# Altium schematic symbol library Connectors.SchLib: 19 symbols
Pins are listed as number, name and electrical type; pins without a type are passive.

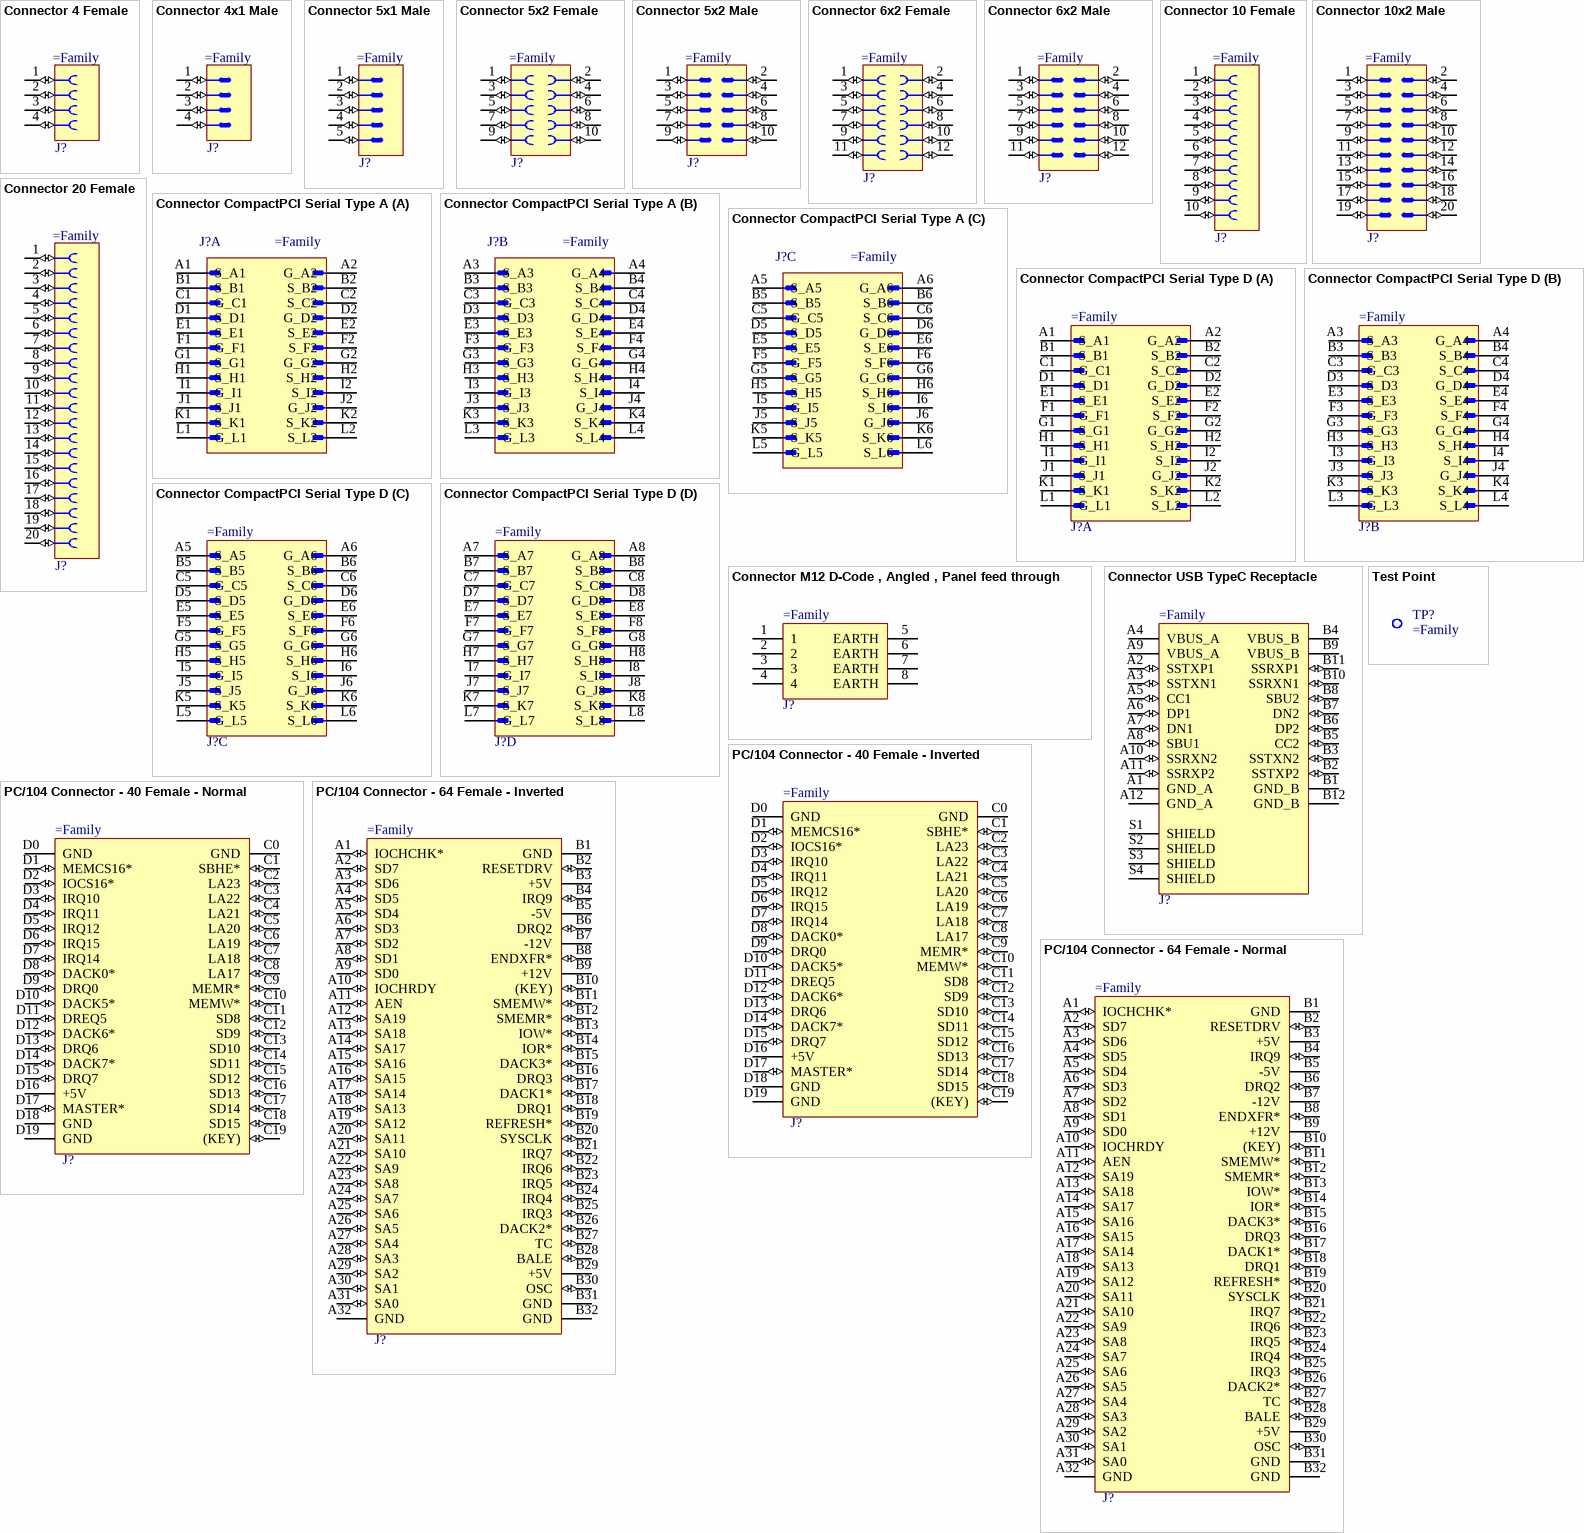
[diagram p0: symbols Connector 4 Female to Test Point]

## Connector 4 Female
designator J?
Connector 4 Female
pins: 1 (io), 2 (io), 3 (io), 4 (io)
1 alternate drawing of the same symbol

## Connector 4x1 Male
designator J?
Connector 4x1 Male
pins: 1 (io), 2 (io), 3 (io), 4 (io)
1 alternate drawing of the same symbol

## Connector 5x1 Male
designator J?
Connector 5x1 Male
pins: 1 (io), 2 (io), 3 (io), 4 (io), 5 (io)
1 alternate drawing of the same symbol

## Connector 5x2 Female
designator J?
Connector 5x2 Female
pins: 1 (io), 2 (io), 3 (io), 4 (io), 5 (io), 6 (io), 7 (io), 8 (io), 9 (io), 10 (io)
1 alternate drawing of the same symbol

## Connector 5x2 Male
designator J?
Connector 5x2 Male
pins: 1 (io), 2 (io), 3 (io), 4 (io), 5 (io), 6 (io), 7 (io), 8 (io), 9 (io), 10 (io)
1 alternate drawing of the same symbol

## Connector 6x2 Female
designator J?
Connector 6x2 Female
pins: 1 (io), 2 (io), 3 (io), 4 (io), 5 (io), 6 (io), 7 (io), 8 (io), 9 (io), 10 (io), 11 (io), 12 (io)
1 alternate drawing of the same symbol

## Connector 6x2 Male
designator J?
Connector 6x2 Male
pins: 1 (io), 2 (io), 3 (io), 4 (io), 5 (io), 6 (io), 7 (io), 8 (io), 9 (io), 10 (io), 11 (io), 12 (io)
1 alternate drawing of the same symbol

## Connector 10 Female
designator J?
Connector 10 Female
pins: 1 (io), 2 (io), 3 (io), 4 (io), 5 (io), 6 (io), 7 (io), 8 (io), 9 (io), 10 (io)
1 alternate drawing of the same symbol

## Connector 10x2 Male
designator J?
Connector 10x2 Male
pins: 1 (io), 2 (io), 3 (io), 4 (io), 5 (io), 6 (io), 7 (io), 8 (io), 9 (io), 10 (io), 11 (io), 12 (io), 13 (io), 14 (io), 15 (io), 16 (io), 17 (io), 18 (io), 19 (io), 20 (io)
1 alternate drawing of the same symbol

## Connector 20 Female
designator J?
Connector 20 Female
pins: 1 (io), 2 (io), 3 (io), 4 (io), 5 (io), 6 (io), 7 (io), 8 (io), 9 (io), 10 (io), 11 (io), 12 (io), 13 (io), 14 (io), 15 (io), 16 (io), 17 (io), 18 (io), 19 (io), 20 (io)
1 alternate drawing of the same symbol

## Connector CompactPCI Serial Type A
designator J?
Connector Compact PCI Serial Type A
part A pins: A1 S_A1, A2 G_A2 (power), B1 S_B1, B2 S_B2, C1 G_C1 (power), C2 S_C2, D1 S_D1, D2 G_D2 (power), E1 S_E1, E2 S_E2, F1 G_F1 (power), F2 S_F2, G1 S_G1, G2 G_G2 (power), H1 S_H1, H2 S_H2, I1 G_I1 (power), I2 S_I2, J1 S_J1, J2 G_J2 (power), K1 S_K1, K2 S_K2, L1 G_L1 (power), L2 S_L2
part B pins: A3 S_A3, A4 G_A4 (power), B3 S_B3, B4 S_B4, C3 G_C3 (power), C4 S_C4, D3 S_D3, D4 G_D4 (power), E3 S_E3, E4 S_E4, F3 G_F3 (power), F4 S_F4, G3 S_G3, G4 G_G4 (power), H3 S_H3, H4 S_H4, I3 G_I3 (power), I4 S_I4, J3 S_J3, J4 G_J4 (power), K3 S_K3, K4 S_K4, L3 G_L3 (power), L4 S_L4
part C pins: A5 S_A5, A6 G_A6 (power), B5 S_B5, B6 S_B6, C5 G_C5 (power), C6 S_C6, D5 S_D5, D6 G_D6 (power), E5 S_E5, E6 S_E6, F5 G_F5 (power), F6 S_F6, G5 S_G5, G6 G_G6 (power), H5 S_H5, H6 S_H6, I5 G_I5 (power), I6 S_I6, J5 S_J5, J6 G_J6 (power), K5 S_K5, K6 S_K6, L5 G_L5 (power), L6 S_L6

## Connector CompactPCI Serial Type D
designator J?
Connector CompactPCI Serial Type D
part A pins: A1 S_A1, A2 G_A2 (power), B1 S_B1, B2 S_B2, C1 G_C1 (power), C2 S_C2, D1 S_D1, D2 G_D2 (power), E1 S_E1, E2 S_E2, F1 G_F1 (power), F2 S_F2, G1 S_G1, G2 G_G2 (power), H1 S_H1, H2 S_H2, I1 G_I1 (power), I2 S_I2, J1 S_J1, J2 G_J2 (power), K1 S_K1, K2 S_K2, L1 G_L1 (power), L2 S_L2
part B pins: A3 S_A3, A4 G_A4 (power), B3 S_B3, B4 S_B4, C3 G_C3 (power), C4 S_C4, D3 S_D3, D4 G_D4 (power), E3 S_E3, E4 S_E4, F3 G_F3 (power), F4 S_F4, G3 S_G3, G4 G_G4 (power), H3 S_H3, H4 S_H4, I3 G_I3 (power), I4 S_I4, J3 S_J3, J4 G_J4 (power), K3 S_K3, K4 S_K4, L3 G_L3 (power), L4 S_L4
part C pins: A5 S_A5, A6 G_A6 (power), B5 S_B5, B6 S_B6, C5 G_C5 (power), C6 S_C6, D5 S_D5, D6 G_D6 (power), E5 S_E5, E6 S_E6, F5 G_F5 (power), F6 S_F6, G5 S_G5, G6 G_G6 (power), H5 S_H5, H6 S_H6, I5 G_I5 (power), I6 S_I6, J5 S_J5, J6 G_J6 (power), K5 S_K5, K6 S_K6, L5 G_L5 (power), L6 S_L6
part D pins: A7 S_A7, A8 G_A8 (power), B7 S_B7, B8 S_B8, C7 G_C7 (power), C8 S_C8, D7 S_D7, D8 G_D8 (power), E7 S_E7, E8 S_E8, F7 G_F7 (power), F8 S_F8, G7 S_G7, G8 G_G8 (power), H7 S_H7, H8 S_H8, I7 G_I7 (power), I8 S_I8, J7 S_J7, J8 G_J8 (power), K7 S_K7, K8 S_K8, L7 G_L7 (power), L8 S_L8

## Connector M12 D-Code , Angled , Panel feed through
designator J?
Connector M12 D-Code , Angled , Panel feed through
pins: 1, 2, 3, 4, 5 EARTH, 6 EARTH, 7 EARTH, 8 EARTH

## Connector USB TypeC Receptacle
designator J?
Connector USB TypeC Receptacle
pins: A1 GND_A (power), A2 SSTXP1 (io), A3 SSTXN1 (io), A4 VBUS_A (power), A5 CC1 (io), A6 DP1 (io), A7 DN1 (io), A8 SBU1 (io), A9 VBUS_A (power), A10 SSRXN2 (io), A11 SSRXP2 (io), A12 GND_A (power), B1 GND_B (power), B2 SSTXP2 (io), B3 SSTXN2 (io), B4 VBUS_B (power), B5 CC2 (io), B6 DP2 (io), B7 DN2 (io), B8 SBU2 (io), B9 VBUS_B (power), B10 SSRXN1 (io), B11 SSRXP1 (io), B12 GND_B (power), S1 SHIELD, S2 SHIELD, S3 SHIELD, S4 SHIELD

## PC/104 Connector - 40 Female - Inverted
designator J?
PC/104 Connector - 40 Female - Inverted
pins: C0 GND (power), C1 SBHE* (io), C2 LA23 (io), C3 LA22 (io), C4 LA21 (io), C5 LA20 (io), C6 LA19 (io), C7 LA18 (io), C8 LA17 (io), C9 MEMR* (io), C10 MEMW* (io), C11 SD8 (io), C12 SD9 (io), C13 SD10 (io), C14 SD11 (io), C15 SD12 (io), C16 SD13 (io), C17 SD14 (io), C18 SD15 (io), C19 (KEY) (io), D0 GND (power), D1 MEMCS16* (io), D2 IOCS16* (io), D3 IRQ10 (io), D4 IRQ11 (io), D5 IRQ12 (io), D6 IRQ15 (io), D7 IRQ14 (io), D8 DACK0* (io), D9 DRQ0 (io), D10 DACK5* (io), D11 DREQ5 (io), D12 DACK6* (io), D13 DRQ6 (io), D14 DACK7* (io), D15 DRQ7 (io), D16 +5V (power), D17 MASTER* (io), D18 GND (power), D19 GND (power)

## PC/104 Connector - 40 Female - Normal
designator J?
PC/104 Connector - 40 Female - Normal
pins: C0 GND (power), C1 SBHE* (io), C2 LA23 (io), C3 LA22 (io), C4 LA21 (io), C5 LA20 (io), C6 LA19 (io), C7 LA18 (io), C8 LA17 (io), C9 MEMR* (io), C10 MEMW* (io), C11 SD8 (io), C12 SD9 (io), C13 SD10 (io), C14 SD11 (io), C15 SD12 (io), C16 SD13 (io), C17 SD14 (io), C18 SD15 (io), C19 (KEY) (io), D0 GND (power), D1 MEMCS16* (io), D2 IOCS16* (io), D3 IRQ10 (io), D4 IRQ11 (io), D5 IRQ12 (io), D6 IRQ15 (io), D7 IRQ14 (io), D8 DACK0* (io), D9 DRQ0 (io), D10 DACK5* (io), D11 DREQ5 (io), D12 DACK6* (io), D13 DRQ6 (io), D14 DACK7* (io), D15 DRQ7 (io), D16 +5V (power), D17 MASTER* (io), D18 GND (power), D19 GND (power)

## PC/104 Connector - 64 Female - Inverted
designator J?
PC/104 Connector - 64 Female - Inverted
pins: A1 IOCHCHK* (io), A2 SD7 (io), A3 SD6 (io), A4 SD5 (io), A5 SD4 (io), A6 SD3 (io), A7 SD2 (io), A8 SD1 (io), A9 SD0 (io), A10 IOCHRDY (io), A11 AEN (io), A12 SA19 (io), A13 SA18 (io), A14 SA17 (io), A15 SA16 (io), A16 SA15 (io), A17 SA14 (io), A18 SA13 (io), A19 SA12 (io), A20 SA11 (io), A21 SA10 (io), A22 SA9 (io), A23 SA8 (io), A24 SA7 (io), A25 SA6 (io), A26 SA5 (io), A27 SA4 (io), A28 SA3 (io), A29 SA2 (io), A30 SA1 (io), A31 SA0 (io), A32 GND (power), B1 GND (power), B2 RESETDRV (io), B3 +5V (power), B4 IRQ9 (io), B5 -5V (power), B6 DRQ2 (io), B7 -12V (power), B8 ENDXFR* (io), B9 +12V (power), B10 (KEY) (io), B11 SMEMW* (io), B12 SMEMR* (io), B13 IOW* (io), B14 IOR* (io), B15 DACK3* (io), B16 DRQ3 (io), B17 DACK1* (io), B18 DRQ1 (io), B19 REFRESH* (io), B20 SYSCLK (io), B21 IRQ7 (io), B22 IRQ6 (io), B23 IRQ5 (io), B24 IRQ4 (io), B25 IRQ3 (io), B26 DACK2* (io), B27 TC (io), B28 BALE (io), B29 +5V (power), B30 OSC (io), B31 GND (power), B32 GND (power)

## PC/104 Connector - 64 Female - Normal
designator J?
PC/104 Connector - 64 Female - Normal
pins: A1 IOCHCHK* (io), A2 SD7 (io), A3 SD6 (io), A4 SD5 (io), A5 SD4 (io), A6 SD3 (io), A7 SD2 (io), A8 SD1 (io), A9 SD0 (io), A10 IOCHRDY (io), A11 AEN (io), A12 SA19 (io), A13 SA18 (io), A14 SA17 (io), A15 SA16 (io), A16 SA15 (io), A17 SA14 (io), A18 SA13 (io), A19 SA12 (io), A20 SA11 (io), A21 SA10 (io), A22 SA9 (io), A23 SA8 (io), A24 SA7 (io), A25 SA6 (io), A26 SA5 (io), A27 SA4 (io), A28 SA3 (io), A29 SA2 (io), A30 SA1 (io), A31 SA0 (io), A32 GND (power), B1 GND (power), B2 RESETDRV (io), B3 +5V (power), B4 IRQ9 (io), B5 -5V (power), B6 DRQ2 (io), B7 -12V (power), B8 ENDXFR* (io), B9 +12V (power), B10 (KEY) (io), B11 SMEMW* (io), B12 SMEMR* (io), B13 IOW* (io), B14 IOR* (io), B15 DACK3* (io), B16 DRQ3 (io), B17 DACK1* (io), B18 DRQ1 (io), B19 REFRESH* (io), B20 SYSCLK (io), B21 IRQ7 (io), B22 IRQ6 (io), B23 IRQ5 (io), B24 IRQ4 (io), B25 IRQ3 (io), B26 DACK2* (io), B27 TC (io), B28 BALE (io), B29 +5V (power), B30 OSC (io), B31 GND (power), B32 GND (power)

## Test Point
designator TP?
Test Point
pins: 1 (io)